# Altium schematic symbol library PCB_Project.SCHLIB: 24 symbols
Pins are listed as number, name and electrical type; pins without a type are passive.

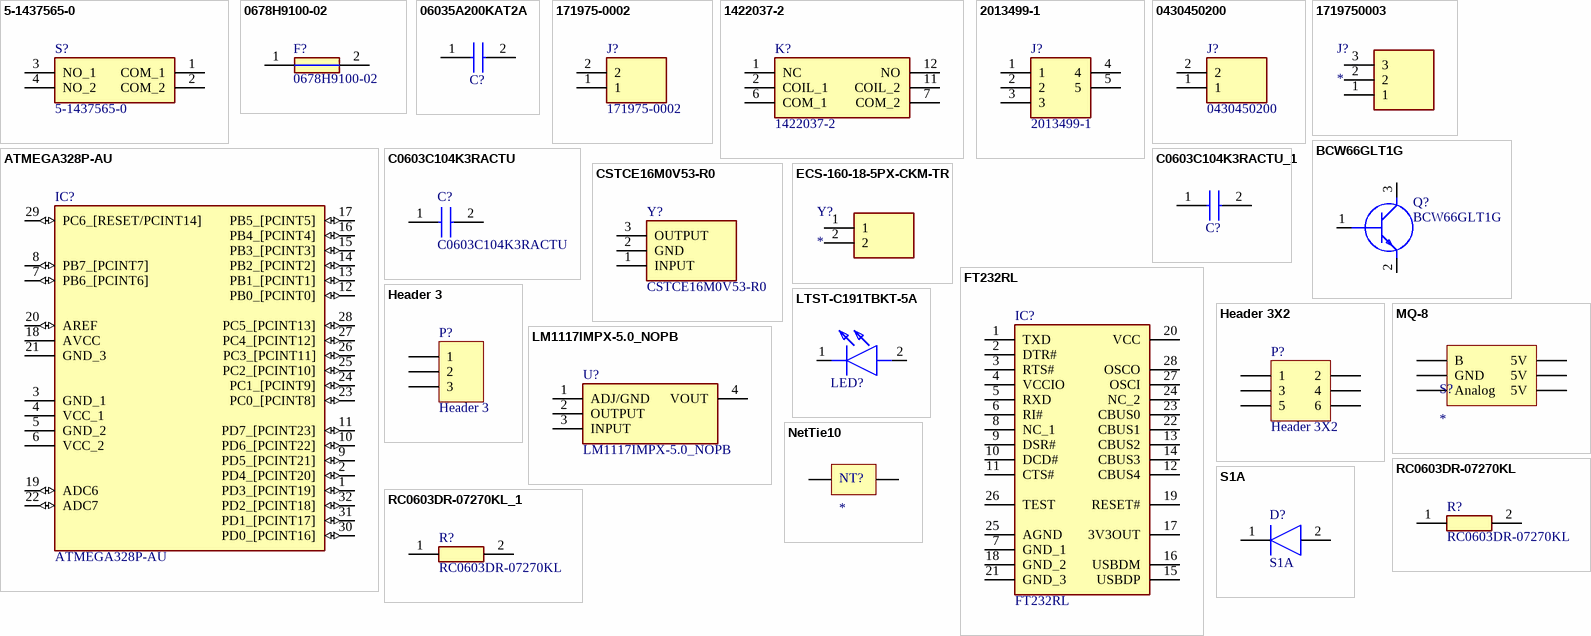
[diagram p0: symbols 5-1437565-0 to S1A]

## 5-1437565-0
designator S?
Switch; Manufacturer_Name: TE Connectivity; Datasheet Link: https://www.te.com/commerce/DocumentDelivery/DDEController?Action=showdoc&DocId=Customer+Drawing%7F2-1437565-7%7FV%7Fpdf%7FEnglish%7FENG_CD_2-1437565-7_V.pdf%7F5-1437565-0; Height: 7.26mm; Manufacturer_Part_Number: 5-1437565-0; Mouser Part Number: 506-5-1437565-0; Mouser Price/Stock: https://www.mouser.co.uk/ProductDetail/TE-Connectivity-PB/5-1437565-0?qs=%2FwXgF%2FfIho9mO1nArmyR6A%3D%3D
footprint FSM6JSMATR
pins: 1 COM_1, 2 COM_2, 3 NO_1, 4 NO_2

## 0678H9100-02
designator F?
Fuse; Manufacturer_Name: Bel; Datasheet Link: https://www.mouser.com/datasheet/2/643/Bel Fuse_02202018_0678H-1288534.pdf; Height: 3.18mm; Manufacturer_Part_Number: 0678H9100-02; Mouser Part Number: 530-0678H9100-02
footprint FUSC9830X318N
pins: 1, 2

## 06035A200KAT2A
designator C?, comment C0603C104K3RACTU  (value not drawn)
Capacitor 20pf; Manufacturer_Name: Kemet; Datasheet Link: https://content.kemet.com/datasheets/KEM_C1002_X7R_SMD.pdf; Height: 0.95mm; Manufacturer_Part_Number: C0603C104K3RACTU; Mouser Part Number: 80-C0603C104K3R; Mouser Price/Stock: https://www.mouser.co.uk/ProductDetail/KEMET/C0603C104K3RACTU/?qs=l5k%252BbMnNDklvfdneglCDAg%3D%3D; Arrow Part Number: C0603C104K3RACTU; Arrow Price/Stock: https://www.arrow.com/en/products/c0603c104k3ractu/kemet-corporation
footprint CAPC1608X95N
pins: 1, 2

## 171975-0002
designator J?
Connector; Manufacturer_Name: Molex; Datasheet Link: https://www.molex.com/pdm_docs/sd/1719750002_sd.pdf; Height: 7.38mm; Manufacturer_Part_Number: 171975-0002; Mouser Part Number: 538-171975-0002; Mouser Price/Stock: https://www.mouser.co.uk/ProductDetail/Molex/171975-0002?qs=lc2O%252BfHJPVZp75AIAAjPAw%3D%3D
footprint 1719750002
pins: 1, 2

## 1422037-2
designator K?
Relay or Contactor; Manufacturer_Name: TE Connectivity; Datasheet Link: https://www.te.com/commerce/DocumentDelivery/DDEController?Action=srchrtrv&DocNm=108-98010&DocType=SS&DocLang=EN; Height: 11.7mm; Manufacturer_Part_Number: 1422037-2; Mouser Part Number: 655-1422037-2; Mouser Price/Stock: https://www.mouser.com/Search/Refine.aspx?Keyword=655-1422037-2
footprint 14220372
pins: 1 NC, 2 COIL_1, 6 COM_1, 7 COM_2, 11 COIL_2, 12 NO

## 2013499-1
designator J?
Connector; Manufacturer_Name: TE Connectivity; Datasheet Link: http://www.te.com/commerce/DocumentDelivery/DDEController?Action=showdoc&DocId=Customer+Drawing%7F2013499%7FB2%7Fpdf%7FEnglish%7FENG_CD_2013499_B2.pdf%7F2013499-1; Manufacturer_Part_Number: 2013499-1; Mouser Part Number: 571-2013499-1; Mouser Price/Stock: https://www.mouser.co.uk/ProductDetail/TE-Connectivity/2013499-1/?qs=TL6PIybY3BOLK37GbUYdng%3D%3D; Arrow Part Number: 2013499-1; Arrow Price/Stock: https://www.arrow.com/en/products/2013499-1/te-connectivity
footprint 2013499-1
pins: 1, 2, 3, 4, 5

## 0430450200
designator J?
Connector; Manufacturer_Name: Molex; Datasheet Link: http://www.molex.com/webdocs/datasheets/pdf/en-us//0430450200_PCB_HEADERS.pdf; Manufacturer_Part_Number: 0430450200; Mouser Part Number: N/A; Mouser Price/Stock: https://www.mouser.com/Search/Refine.aspx?Keyword=N%2FA; Arrow Part Number: 0430450200; Arrow Price/Stock: https://www.arrow.com/en/products/0430450200/molex
footprint 43045-0200
pins: 1, 2

## 1719750003
designator J?
Connector; Manufacturer_Name: Molex; Manufacturer_Part_Number: 1719750003; Description: 2.54mm Pitch SL Header; Datasheet Link: https://www.molex.com/pdm_docs/sd/1719750002_sd.pdf; Height: 7mm
footprint 171975YY03
pins: 1, 2, 3

## ATMEGA328P-AU
designator IC?
Integrated Circuit; Manufacturer_Name: Microchip; Datasheet Link: https://componentsearchengine.com/Datasheets/2/ATMEGA328P-AU.pdf; Height: 1.2mm; Manufacturer_Part_Number: ATMEGA328P-AU; Mouser Part Number: 556-ATMEGA328P-AU; Mouser Price/Stock: https://www.mouser.co.uk/ProductDetail/Microchip-Technology-Atmel/ATMEGA328P-AU?qs=K8BHR703ZXiCmmgp6%2FGNmQ%3D%3D; Arrow Part Number: ATMEGA328P-AU; Arrow Price/Stock: https://www.arrow.com/en/products/atmega328p-au/microchip-technology
footprint QFP80P900X900X120-32N
pins: 1 PD3_[PCINT19] (io), 2 PD4_[PCINT20] (io), 3 GND_1 (power), 4 VCC_1 (power), 5 GND_2 (power), 6 VCC_2 (power), 7 PB6_[PCINT6] (io), 8 PB7_[PCINT7] (io), 9 PD5_[PCINT21] (io), 10 PD6_[PCINT22] (io), 11 PD7_[PCINT23] (io), 12 PB0_[PCINT0] (io), 13 PB1_[PCINT1] (io), 14 PB2_[PCINT2] (io), 15 PB3_[PCINT3] (io), 16 PB4_[PCINT4] (io), 17 PB5_[PCINT5] (io), 18 AVCC (power), 19 ADC6 (io), 20 AREF (io), 21 GND_3 (power), 22 ADC7 (io), 23 PC0_[PCINT8] (io), 24 PC1_[PCINT9] (io), 25 PC2_[PCINT10] (io), 26 PC3_[PCINT11] (io), 27 PC4_[PCINT12] (io), 28 PC5_[PCINT13] (io), 29 PC6_[RESET/PCINT14] (io), 30 PD0_[PCINT16] (io), 31 PD1_[PCINT17] (io), 32 PD2_[PCINT18] (io)

## BCW66GLT1G
designator Q?
Transistor BJT NPN; Manufacturer_Name: ON Semiconductor; Datasheet Link: http://www.onsemi.com/pub/Collateral/BCW66GLT1-D.PDF; Height: 1.11mm; Manufacturer_Part_Number: BCW66GLT1G; Mouser Part Number: 863-BCW66GLT1G; Mouser Price/Stock: https://www.mouser.co.uk/ProductDetail/ON-Semiconductor/BCW66GLT1G?qs=R2UZ7gjkEjKs0bN2RlXbWw%3D%3D; Arrow Part Number: BCW66GLT1G; Arrow Price/Stock: https://www.arrow.com/en/products/bcw66glt1g/on-semiconductor
footprint SOT95P237X111-3N
pins: 1 B, 2 E, 3 C

## C0603C104K3RACTU
designator C?
Capacitor; Manufacturer_Name: Kemet; Datasheet Link: https://content.kemet.com/datasheets/KEM_C1002_X7R_SMD.pdf; Height: 0.95mm; Manufacturer_Part_Number: C0603C104K3RACTU; Mouser Part Number: 80-C0603C104K3R; Mouser Price/Stock: https://www.mouser.co.uk/ProductDetail/KEMET/C0603C104K3RACTU/?qs=l5k%252BbMnNDklvfdneglCDAg%3D%3D; Arrow Part Number: C0603C104K3RACTU; Arrow Price/Stock: https://www.arrow.com/en/products/c0603c104k3ractu/kemet-corporation
footprint CAPC1608X95N
pins: 1, 2

## C0603C104K3RACTU_1
designator C?, comment C0603C104K3RACTU  (value not drawn)
Capacitor; Manufacturer_Name: Kemet; Datasheet Link: https://content.kemet.com/datasheets/KEM_C1002_X7R_SMD.pdf; Height: 0.95mm; Manufacturer_Part_Number: C0603C104K3RACTU; Mouser Part Number: 80-C0603C104K3R; Mouser Price/Stock: https://www.mouser.co.uk/ProductDetail/KEMET/C0603C104K3RACTU/?qs=l5k%252BbMnNDklvfdneglCDAg%3D%3D; Arrow Part Number: C0603C104K3RACTU; Arrow Price/Stock: https://www.arrow.com/en/products/c0603c104k3ractu/kemet-corporation
footprint CAPC1608X95N
pins: 1, 2

## CSTCE16M0V53-R0
designator Y?
Crystal or Oscillator; Manufacturer_Name: Murata Electronics; Datasheet Link: https://www.murata.com/en-sg/products/productdetail?partno=CSTCE16M0V53-R0; Height: 1mm; Manufacturer_Part_Number: CSTCE16M0V53-R0; Mouser Part Number: 81-CSTCE16M0V53-R0; Mouser Price/Stock: https://www.mouser.co.uk/ProductDetail/Murata-Electronics/CSTCE16M0V53-R0/?qs=HPA2Xx%252BU0WhPWbRcNuzhZw%3D%3D
footprint CSTCE16M0V53R0
pins: 1 INPUT, 2 GND, 3 OUTPUT

## ECS-160-18-5PX-CKM-TR
designator Y?
Crystal or Oscillator; Manufacturer_Name: ECS; Manufacturer_Part_Number: ECS-160-18-5PX-CKM-TR; Datasheet Link: https://ecsxtal.com/store/pdf/csm-7x.pdf; Height: 4.3mm
footprint ECS49205PXTR
pins: 1, 2

## FT232RL
designator IC?
Integrated Circuit; Manufacturer_Name: FTDI Chip; Datasheet Link: http://www.ftdichip.com/Support/Documents/DataSheets/ICs/DS_FT232R.pdf; Height: 2mm; Manufacturer_Part_Number: FT232RL; Arrow Part Number: FT232RL; Arrow Price/Stock: https://www.arrow.com/en/products/ft232rl/ftdi-chip
footprint SOP65P778X200-28N
pins: 1 TXD, 2 DTR#, 3 RTS#, 4 VCCIO, 5 RXD, 6 RI#, 7 GND_1, 8 NC_1, 9 DSR#, 10 DCD#, 11 CTS#, 12 CBUS4, 13 CBUS2, 14 CBUS3, 15 USBDP, 16 USBDM, 17 3V3OUT, 18 GND_2, 19 RESET#, 20 VCC, 21 GND_3, 22 CBUS1, 23 CBUS0, 24 NC_2, 25 AGND, 26 TEST, 27 OSCI, 28 OSCO

## Header 3
designator P?
Header, 3-Pin; LatestRevisionDate: 17-Jul-2002; LatestRevisionNote: Re-released for DXP Platform.; Publisher: Altium Limited
footprint HDR1X3 (Connector; Header; 3 Position)
signal-integrity model Connector
pins: 1, 2, 3

## Header 3X2
designator P?
Header, 3-Pin, Dual row; LatestRevisionDate: 17-Jul-2002; LatestRevisionNote: Re-released for DXP Platform.; Publisher: Altium Limited
footprint HDR2X3 (Connector; Header; 3x2 Position)
signal-integrity model Connector
pins: 1, 2, 3, 4, 5, 6

## LM1117IMPX-5.0_NOPB
designator U?
Undefined or Miscellaneous; Manufacturer_Name: Texas Instruments; Manufacturer_Part_Number: LM1117IMPX-5.0/NOPB; Datasheet Link: http://www.ti.com/lit/gpn/lm1117; Height: 1.8mm; Mouser Part Number: 926-LM1117IMPX50NOPB; Mouser Price/Stock: https://www.mouser.co.uk/ProductDetail/Texas-Instruments/LM1117IMPX-50-NOPB?qs=X1J7HmVL2ZGGwLlD0uGqKQ%3D%3D; Arrow Part Number: LM1117IMPX-5.0/NOPB; Arrow Price/Stock: https://www.arrow.com/en/products/lm1117impx-5.0nopb/texas-instruments
footprint SOT230P700X180-4N
pins: 1 ADJ/GND, 2 OUTPUT, 3 INPUT, 4 VOUT

## LTST-C191TBKT-5A
designator LED?  (value not drawn)
LED; Manufacturer_Name: Lite-On; Datasheet Link: http://www.mouser.com/ds/2/239/S_110_LTST-C191TBKT-5A-336399.pdf; Height: 0.65mm; Manufacturer_Part_Number: LTST-C191TBKT-5A; Mouser Part Number: 859-LTST-C191TBKT-5A; Mouser Price/Stock: https://www.mouser.co.uk/ProductDetail/Lite-On/LTST-C191TBKT-5A/?qs=xb8aMrBSZRLgwF8AXHEbeQ%3D%3D; Arrow Part Number: LTST-C191TBKT-5A; Arrow Price/Stock: https://www.arrow.com/en/products/ltst-c191tbkt-5a/lite-on-technology
footprint LEDC1608X65N
pins: 1 K, 2 A

## MQ-8
designator S?
Hydrogen Gas Sensor
footprint PCBComponent_1
pins: 1 B, 2 GND, 3 Analog, 4 5V, 5 5V, 6 5V

## NetTie10
designator NT?  (net tie, no BOM)
footprint NetTie
pins: 1, 2

## RC0603DR-07270KL
designator R?
Resistor; Manufacturer_Name: YAGEO (PHYCOMP); Datasheet Link: http://www.yageo.com/documents/recent/PYu-RC0603_51_RoHS_L_v5.pdf; Height: 0.55mm; Manufacturer_Part_Number: RC0603DR-07270KL; Arrow Part Number: RC0603DR-07270KL; Arrow Price/Stock: https://www.arrow.com/en/products/rc0603dr-07270kl/yageo
footprint RESC1608X55N
pins: 1, 2

## RC0603DR-07270KL_1
designator R?, comment RC0603DR-07270KL
Resistor; Manufacturer_Name: YAGEO (PHYCOMP); Datasheet Link: http://www.yageo.com/documents/recent/PYu-RC0603_51_RoHS_L_v5.pdf; Height: 0.55mm; Manufacturer_Part_Number: RC0603DR-07270KL; Arrow Part Number: RC0603DR-07270KL; Arrow Price/Stock: https://www.arrow.com/en/products/rc0603dr-07270kl/yageo
footprint RESC1608X55N
pins: 1, 2

## S1A
designator D?
Diode; Manufacturer_Name: ON Semiconductor; Datasheet Link: http://www.onsemi.com/pub/Collateral/S1M-D.pdf; Height: 2.7mm; Manufacturer_Part_Number: S1A; Mouser Part Number: 512-S1A; Mouser Price/Stock: https://www.mouser.co.uk/ProductDetail/ON-Semiconductor-Fairchild/S1A/?qs=RJwZ8kJo1mjAagviH5vK9g%3D%3D; Arrow Part Number: S1A; Arrow Price/Stock: https://www.arrow.com/en/products/s1a/on-semiconductor
footprint DIOM5227X270N
pins: 1 K, 2 A